# EAGLE library part TLV7113025 (library scono)
https://www.digikey.com/product-detail/en/texas-instruments/TLV7113025DSER/296-35051-1-ND/3725763
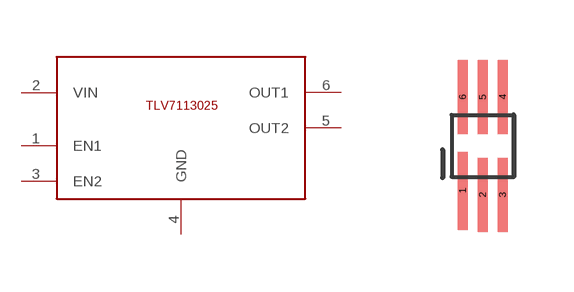
[diagram p27: symbol with the pads of 6-WSON(1.5X1.5); footprint 6-WSON(1.5X1.5)]

Designator prefix IC

## TLV7113025  [6-WSON(1.5X1.5)]
1  EN1
2  VIN  pwr
3  EN2
4  GND  pwr
5  OUT2  pwr
6  OUT1  pwr

## Footprint 6-WSON(1.5X1.5) (pad centres in mm)
smd 0.25 x 1.95: 1 -0.5,-1.125
smd 0.25 x 1.85: 2 0,-1.225; 3 0.5,-1.225; 4 0.5,1.225; 5 0,1.225; 6 -0.5,1.225